# Altium footprint library PCB - LEADLESS - BGA - STM VFBGA223 B0GK.PcbLib: 1 footprints
Each footprint in its own frame and in the unit in brackets; x right, y up, seen from the top. Pads: shape width x height; smd on the part's side, far side on the other; paste and mask are expansions set on the pad; w line width, h text height; cw(c..) or ccw(c..) is an arc to the next point about the centre after c.
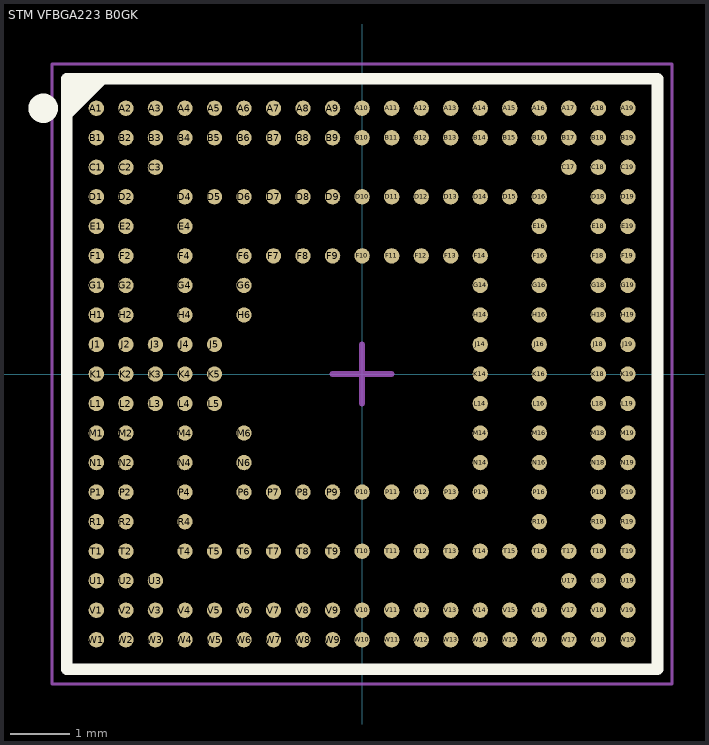
[diagram p0: the footprint, top view; thin cyan lines are the x and y axes]

## STM VFBGA223 B0GK [mm] "VFBGA, 223-Leads, Body 10.00x10.00mmx1.00mm, Pitch 0.50mm"
height 1
pads (224):
  round 0.26 smd: A1(-4.5,4.5) A2(-4,4.5) A3(-3.5,4.5) A4(-3,4.5) A5(-2.5,4.5) A6(-2,4.5) A7(-1.5,4.5) A8(-1,4.5) A9(-0.5,4.5) A10(0,4.5) A11(0.5,4.5) A12(1,4.5) A13(1.5,4.5) A14(2,4.5) A15(2.5,4.5) A16(3,4.5) A17(3.5,4.5) A18(4,4.5) A19(4.5,4.5) B1(-4.5,4) B2(-4,4) B3(-3.5,4) B4(-3,4) B5(-2.5,4) B6(-2,4) B7(-1.5,4) B8(-1,4) B9(-0.5,4) B10(0,4) B11(0.5,4) B12(1,4) B13(1.5,4) B14(2,4) B15(2.5,4) B16(3,4) B17(3.5,4) B18(4,4) B19(4.5,4) C1(-4.5,3.5) C2(-4,3.5) C3(-3.5,3.5) C17(3.5,3.5) C18(4,3.5) C19(4.5,3.5) D1(-4.5,3) D2(-4,3) D4(-3,3) D5(-2.5,3) D6(-2,3) D7(-1.5,3) D8(-1,3) D9(-0.5,3) D10(0,3) D11(0.5,3) D12(1,3) D13(1.5,3) D14(2,3) D15(2.5,3) D16(3,3) D18(4,3) D19(4.5,3) E1(-4.5,2.5) E2(-4,2.5) E4(-3,2.5) E16(3,2.5) E18(4,2.5) E19(4.5,2.5) F1(-4.5,2) F2(-4,2) F4(-3,2) F6(-2,2) F7(-1.5,2) F8(-1,2) F9(-0.5,2) F10(0,2) F11(0.5,2) F12(1,2) F13(1.5,2) F14(2,2) F16(3,2) F18(4,2) F19(4.5,2) G1(-4.5,1.5) G2(-4,1.5) G4(-3,1.5) G6(-2,1.5) G14(2,1.5) G16(3,1.5) G18(4,1.5) G19(4.5,1.5) H1(-4.5,1) H2(-4,1) H4(-3,1) H6(-2,1) H14(2,1) H16(3,1) H18(4,1) H19(4.5,1) J1(-4.5,0.5) J2(-4,0.5) J3(-3.5,0.5) J4(-3,0.5) J5(-2.5,0.5) J14(2,0.5) J16(3,0.5) J18(4,0.5) J19(4.5,0.5) K1(-4.5,0) K2(-4,0) K3(-3.5,0) K4(-3,0) K5(-2.5,0) K14(2,0) K16(3,0) K18(4,0) K19(4.5,0) L1(-4.5,-0.5) L2(-4,-0.5) L3(-3.5,-0.5) L4(-3,-0.5) L5(-2.5,-0.5) L14(2,-0.5) L16(3,-0.5) L18(4,-0.5) L19(4.5,-0.5) M1(-4.5,-1) M2(-4,-1) M4(-3,-1) M6(-2,-1) M14(2,-1) M16(3,-1) M18(4,-1) M19(4.5,-1) N1(-4.5,-1.5) N2(-4,-1.5) N4(-3,-1.5) N6(-2,-1.5) N14(2,-1.5) N16(3,-1.5) N18(4,-1.5) N19(4.5,-1.5) P1(-4.5,-2) P2(-4,-2) P4(-3,-2) P6(-2,-2) P7(-1.5,-2) P8(-1,-2) P9(-0.5,-2) P10(0,-2) P11(0.5,-2) P12(1,-2) P13(1.5,-2) P14(2,-2) P16(3,-2) P18(4,-2) P19(4.5,-2) R1(-4.5,-2.5) R2(-4,-2.5) R4(-3,-2.5) R16(3,-2.5) R18(4,-2.5) R19(4.5,-2.5) T1(-4.5,-3) T2(-4,-3) T4(-3,-3) T5(-2.5,-3) T6(-2,-3) T7(-1.5,-3) T8(-1,-3) T9(-0.5,-3) T10(0,-3) T11(0.5,-3) T12(1,-3) T13(1.5,-3) T14(2,-3) T15(2.5,-3) T16(3,-3) T17(3.5,-3) T18(4,-3) T19(4.5,-3) U1(-4.5,-3.5) U2(-4,-3.5) U3(-3.5,-3.5) U17(3.5,-3.5) U18(4,-3.5) U19(4.5,-3.5) V1(-4.5,-4) V2(-4,-4) V3(-3.5,-4) V4(-3,-4) V5(-2.5,-4) V6(-2,-4) V7(-1.5,-4) V8(-1,-4) V9(-0.5,-4) V10(0,-4) V11(0.5,-4) V12(1,-4) V13(1.5,-4) V14(2,-4) V15(2.5,-4) V16(3,-4) V17(3.5,-4) V18(4,-4) V19(4.5,-4) W1(-4.5,-4.5) W2(-4,-4.5) W3(-3.5,-4.5) W4(-3,-4.5) W5(-2.5,-4.5) W6(-2,-4.5) W7(-1.5,-4.5) W8(-1,-4.5) W9(-0.5,-4.5) W10(0,-4.5) W11(0.5,-4.5) W12(1,-4.5) W13(1.5,-4.5) W14(2,-4.5) W15(2.5,-4.5) W16(3,-4.5) W17(3.5,-4.5) W18(4,-4.5) W19(4.5,-4.5)
Top Overlay:
  circle w0.25: c-5.4,4.5 r0.125
  region: -4.4,5 -5,4.4 -5,5
  lines w0.2: -5,4.4 -4.4,5 ; -5,-5 -5,5 5,5 5,-5 -5,-5
Mechanical 13:
  lines w0.1: -5,-5 -5,5 5,5 5,-5 -5,-5
Mechanical 15:
  lines w0.05: -5.25,-5.25 -5.25,5.25 5.25,5.25 5.25,-5.25 -5.25,-5.25
  lines w0.1: -0.5,0 0.5,0 ; 0,-0.5 0,0.5
3D body "STM VFBGA223 B0GK.step": height 1, standoff 0, extent -5,-5 5,5